# Altium schematic symbol library USBC_Power_Supply.SCHLIB: 68 symbols (part 1 of 2)
Pins are listed as number, name and electrical type; pins without a type are passive.

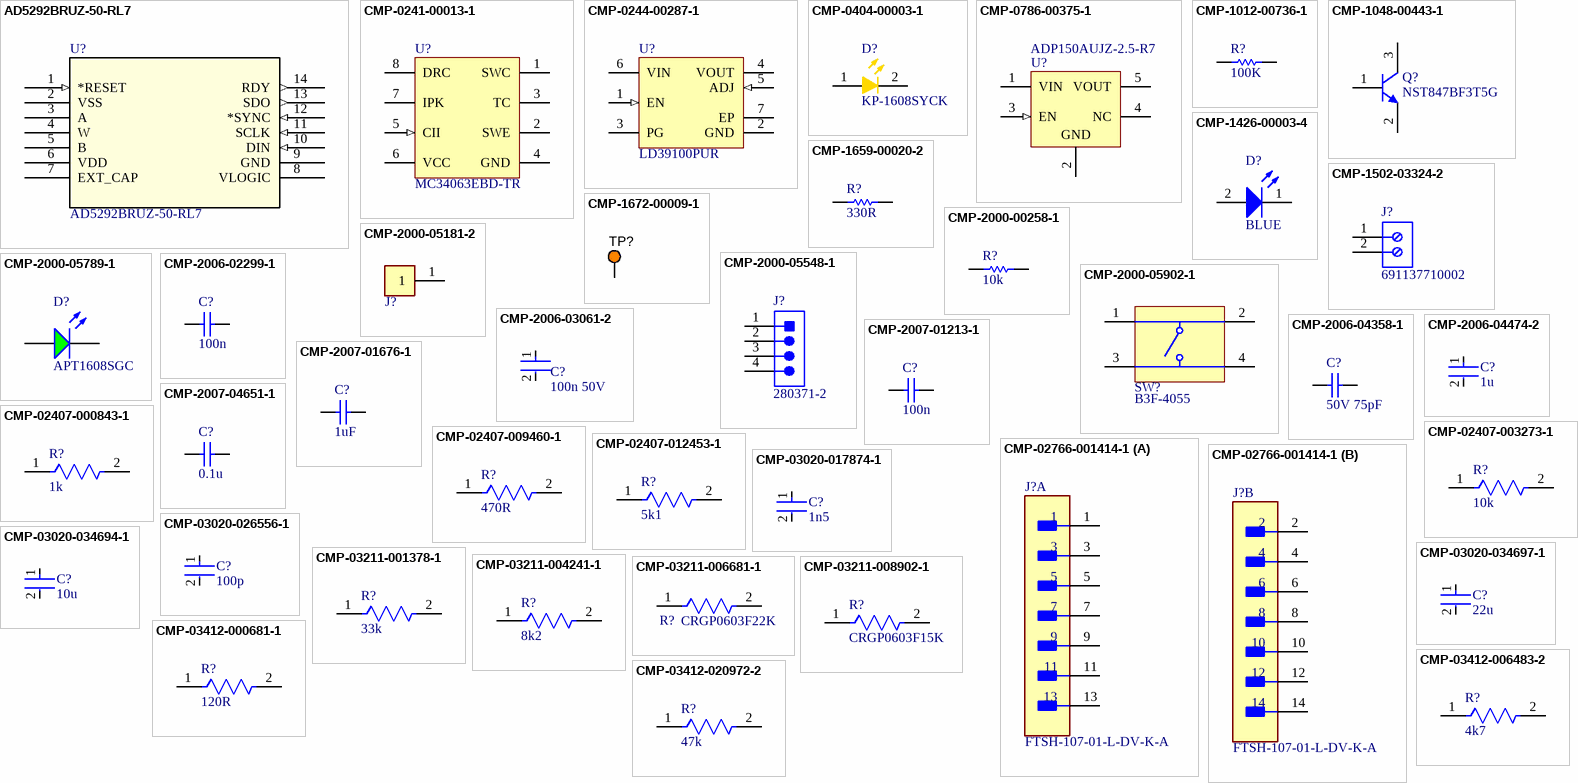
[diagram p0: symbols AD5292BRUZ-50-RL7 to CMP-03412-020972-2]

## AD5292BRUZ-50-RL7
designator U?
256-/1024-Position, Digital Potentiometers with Maximum Â±1% R-Tolerance Error and 20-TP Memory; Manufacturer_Name: Analog Devices Inc; Type: Data Acquisition; Copyright: Copyright (C) 2026 Ultra Librarian. All rights reserved.; Manufacturer_Part_Number: AD5292BRUZ-50-RL7; Datasheet: https://www.analog.com/media/en/technical-documentation/data-sheets/AD5291_5292.pdf; RefDes: RefDes
footprint RU-14_ADI
pins: 1 *RESET (in), 2 VSS (power), 3 A, 4 W, 5 B, 6 VDD (power), 7 EXT_CAP (power), 8 VLOGIC (power), 9 GND (power), 10 DIN (in), 11 SCLK (in), 12 *SYNC (in), 13 SDO (out), 14 RDY (out)

## CMP-0241-00013-1
designator U?, comment MC34063EBD-TR
DC/DC converter control circuit, 8-Pin SO, Tape and Reel; Manufacturer: STMicroelectronics; ComponentLink2URL: http://www.st.com/internet/com/TECHNICAL_RESOURCES/TECHNICAL_LITERATURE/DATASHEET/CD00001232.pdf; ComponentLink1URL: http://www.st.com; PackageVersion: Dec-2002; Code_IPC: SOIC127P600-8; PackageDescription: 8-Pin Small Outline Integrated Circuit 1.27 mm Pitch; DatasheetVersion: Nov-2007; PackageReference: SO8; ComponentLink2Description: Datasheet; ComponentLink3Description: Package Specification; ComponentLink1Description: Manufacturer URL; Code_JEDEC: MS-012-AA; ComponentLink3URL: http://www.st.com/internet/com/TECHNICAL_RESOURCES/TECHNICAL_LITERATURE/PACKAGE_INFORMATION/CD00004680.pdf; Manufacturer Part Number: MC34063EBD-TR
footprint SO8_M (SOIC, 8-Leads, Body 4.9x3.9mm, Pitch 1.27mm, IPC Low Density)
footprint SO8_L (SOIC, 8-Leads, Body 4.9x3.9mm, Pitch 1.27mm, IPC High Density)
footprint SO8_N (SOIC, 8-Leads, Body 4.9x3.9mm, Pitch 1.27mm, IPC Medium Density)
pins: 1 SWC (oc), 2 SWE (oe), 3 TC, 4 GND (power), 5 CII (in), 6 VCC (power), 7 IPK, 8 DRC (oc)

## CMP-0244-00287-1
designator U?, comment LD39100PUR
1 A Low Quiescent Current Low Noise Voltage Regulator, Adjustable from 0.8V, 6-Pin VFDFPN, Tape and Reel; Manufacturer: STMicroelectronics; ComponentLink1URL: http://www.st.com; ComponentLink1Description: Manufacturer URL; ComponentLink2Description: Datasheet; DatasheetVersion: 1/10/2011; PackageDescription: 6-Pin Plastic, Dual LLP, 3 x 3 mm Body, 0.95 mm Pitch, Exposed Pad; PackageReference: DFN6D; ComponentLink2URL: http://www.st.com/internet/com/TECHNICAL_RESOURCES/TECHNICAL_LITERATURE/DATASHEET/CD00233788.pdf; PackageVersion: 2008; Manufacturer Part Number: LD39100PUR
footprint DFN6D_M (SON, 6-Leads, Body 3x3mm, Pitch 0.95mm, Thermal Pad 2.4x1.65mm, IPC Low Density)
footprint DFN6D_L (SON, 6-Leads, Body 3x3mm, Pitch 0.95mm, Thermal Pad 2.4x1.65mm, IPC High Density)
footprint DFN6D_N (SON, 6-Leads, Body 3x3mm, Pitch 0.95mm, Thermal Pad 2.4x1.65mm, IPC Medium Density)
pins: 1 EN (in), 2 GND (power), 3 PG (oc), 4 VOUT (power), 5 ADJ (in), 6 VIN (power), 7 EP (power)

## CMP-0404-00003-1
designator D?, comment KP-1608SYCK
LED, SMT, 0603(1608), 1.1mm thickness, Yellow; Manufacturer: Kingbright; Reverse Voltage: 5 V; Packing Type: 2000 pcs / reel; Forward Current: 30 mA; Power Dissipation: 75 mW; ComponentLink2URL: http://www.kingbright.com/manager/upload/pdf/(1366274739)KP-1608SYCK(Ver.18B).pdf; PartNumber: KP-1608SYCK; ComponentLink1URL: http://www.kingbright.com/; ComponentLink2Description: Datasheet; PackageDescription: 2-Pin SMT LED, 1.6 x 0.8 mm Pitch; PackageReference: 0603LED_YELLOW; ComponentLink1Description: Manufacturer URL; Storage Temperature: -40 to +85 degC; Mounting Technology: Surface Mount; Manufacturer Part Number: KP-1608SYCK
footprint KING-0603LED_YELLOW_V (SMT LED, 2-Leads, Body 1.6x0.8mm (0603-Size))
pins: 1 A, 2 K

## CMP-0786-00375-1
designator U?, comment ADP150AUJZ-2.5-R7
Ultralow Noise, 150 mA CMOS Linear Regulator, 2.2 to 5.5 V Vin, 2.5 V Vout, Industrial, 5-pin SOT23 (UJ-5), Reel; Manufacturer: Analog Devices; Iout max: 150mA; Preset Vout Values (V): 2.5; Supply Current IGND @ Small Load: 10uA; Vin (max) (V): 5.5; Vin (min) (V): 2.2; ComponentLink1URL: http://www.analog.com/en/index.html; ComponentLink2Description: Datasheet; ComponentLink4URL: Product URL:http://www.analog.com/en/ADP150/productSearch.html; ComponentLink3Description: Package Specification; PackageDescription: 5-Pin Thin Small Outline Transistor Package, Body 2.9 x 1.6 mm, Pitch 0.95 mm; PackageReference: UJ-5; ComponentLink3URL: http:/www.analog.com/static/imported-files/packages/PKG_PDF/TSOT(UJ)/UJ_5.pdf; Packing: Reel; ComponentLink4Description: URL Link1; ComponentLink2URL: http://www.analog.com/static/imported-files/data_sheets/ADP150.pdf; Code_JEDEC: MO-193-AB; DatasheetVersion: Rev. A; PackageVersion: 100708-A, 10/2008; ComponentLink1Description: Manufacturer URL; Mounting Technology: Surface Mount; PartNumber: ADP150AUJZ-2.5-R7; Manufacturer Part Number: ADP150AUJZ-2.5-R7
footprint ADI-UJ-5_N (SOT23, 5-Leads, Body 2.9x1.6mm, Pitch 0.95mm, IPC Medium Density)
footprint ADI-UJ-5_M (SOT23, 5-Leads, Body 2.9x1.6mm, Pitch 0.95mm, IPC Low Density)
footprint ADI-UJ-5_L (SOT23, 5-Leads, Body 2.9x1.6mm, Pitch 0.95mm, IPC High Density)
pins: 1 VIN (power) "Regulator Input Supply. Bypass VIN to GND with a capacitor of at least 1 uF.", 2 GND (power) "Ground.", 3 EN (in) "Enable Input. Drive EN high to turn on the regulator; drive EN low to turn off the regulator. For automatic startup, connect EN to VIN.", 4 NC "No Connect. These pins are not internally bonded. They can be left floating or connected to ground.", 5 VOUT (power) "Regulated Output Voltage. Bypass VOUT to GND with a capacitor of at least 1 uF."

## CMP-1012-00736-1
designator R?, comment 100K
100K 0.1W 1% 0603 (1608 Metric)  SMD; Manufacturer: Vishay; Manufacturer Part Number: CRCW0603100KFKTC; Manufacturer Part Number: CRCW0603100KFKEB; Manufacturer Part Number: CRCW0603100KFKTA; Manufacturer Part Number: CRCW0603100KFKTB; Manufacturer: Yageo Group; Manufacturer Part Number: RC0603FR-07100KL; Manufacturer Part Number: CRCW0603100KFKEC; Manufacturer Part Number: CRCW0603-100KFKEA; Manufacturer: Bourns; Manufacturer Part Number: CR0603-FX-1003ELF; Manufacturer: Panasonic; Manufacturer Part Number: ERJ-3EKF1003V; Value: 100000.00 Ohm; Case-Metric: 1608; Case-EIA: 0603; Power: 0.1 W; Tolerance: 1 %; Technology: SMT
footprint RESC0603(1608)_N (Chip Resistor, Body 1.6x0.8mm, IPC Medium Density)
footprint RESC0603(1608)_M (Chip Resistor, Body 1.6x0.8mm, IPC Low Density)
footprint RESC0603(1608)_L (Chip Resistor, Body 1.6x0.8mm, IPC High Density)
pins: 1, 2
1 alternate drawing of the same symbol

## CMP-1048-00443-1
designator Q?, comment NST847BF3T5G
NPN General Purpose Transistor, 3-Pin SOT-1123, Pb-Free, Tape and Reel; Manufacturer: On Semiconductor; Manufacturer: onsemi; fT Min (MHz): 100; IC Continuous (A): 0.1; RoHS: TRUE; PartNumber: NST847BF3T5G; Packing: Tape and Reel; ComponentLink3Description: Package Specification; ComponentLink2URL: http://www.onsemi.com/pub_link/Collateral/NST847BF3-D.PDF; PackageReference: SOT-1123-3-524AA; PackageDescription: 3-Pin Small Outline Transistor, Body 0.8 x 0.6 mm, Pitch 0.375 mm; PackageVersion: Rev. C, 11/2011; ComponentLink1Description: Manufacturer URL; Mounting Technology: Surface Mount; ComponentLink2Description: Datasheet; ComponentLink1URL: http://www.onsemi.com/; DatasheetVersion: Rev. 1; Polarity: NPN; ComponentLink3URL: http://www.onsemi.cn/pub_link/Collateral/524AA.PDF; Manufacturer Part Number: NST847BF3T5G
footprint ONSC-SOT-1123-3-524AA_V (SOT223, 3-Leads, Body 0.8x0.6mm, Pitch 0.38mm)
pins: 1 B, 2 E, 3 C

## CMP-1426-00003-4
designator D?, comment BLUE
Led, Blue, 470 Nm, 3.2 V, 30 Ma, 145 Mcd Rohs Compliant: Yes; Manufacturer: Wurth Elektronik; Manufacturer Part Number: 150060BS75000; Peak Wavelength: 465nm; Dominant Wavelength: 470nm; Power Dissipation: 105mW; Viewing Angle: 140°; Test Current: 20mA; Max Junction Temperature (Tj): 95°C; Forward Current: 100mA; Reverse Voltage: 5V; Luminous Intensity: 145mcd; Lens Style: Clear, Rectangular; Forward Voltage: 3.2V; RoHS: Compliant; Min Operating Temperature: -40°C; REACH SVHC: Unknown; Max Operating Temperature: 85°C; Width: 800µm; Case Code (Imperial): 0603; Case Code (Metric): 1608; Max Reverse Voltage (DC): 5V; Height: 700µm; Case/Package: 0603; Mount: Surface Mount; Packaging: Tape and Reel; Color: Blue; Wavelength: 470nm; Length: 1.6mm
footprint WL-SMCW_0603_150060xx75000
pins: 1 K, 2 A

## CMP-1502-03324-2
designator J?, comment 691137710002
NexarPartId: 78871135; Manufacturer: Wurth Elektronik; Voltage Rating: 300V; Number of Contacts: 2; Current Rating: 16A; Lead Pitch: 5mm; Height: 11.6mm; Packaging: Box; RoHS: Non-Compliant; Contact Material: Nickel, Tin; Max Operating Temperature: 120°C; Number of Pins: 2; Min Operating Temperature: -30°C; Number of Rows: 1; Manufacturer Part Number: 691137710002
footprint 691137710002 (Series 1377 - 5.00 mm Horizontal Entry with Pressure Clamp WR-TBL, 2 pin)
pins: 1, 2

## CMP-1659-00020-2
designator R?, comment 330R
Chip Resistor, 330 Ohm, +/- 1%, 0.1 W, -55 to 155 degC, 0603 (1608 Metric), RoHS, Tape and Reel; Manufacturer: Yageo Group; Manufacturer Part Number: RC0603FR-07330RL; Tolerance: 10%; ESR: 800 mohm; Voltage Rating (DC): 16 V; Capacitance: 47 uF; Length: 7.3 mm; ComponentLink1URL: http://www.yageo.com/; Packaging: Tape and Reel; Pins: 2; ComponentLink1Description: Manufacturer URL; Case Code (Imperial): 2917; REACH SVHC: No SVHC; Width: 4.3 mm; ComponentLink2Description: Datasheet; Voltage Rating: 16 V; RoHSCompliant: True; Max Operating Temperature: 125degC; ComponentLink2URL: http://www.yageo.com/documents/recent/PYu-RC_Group_51_RoHS_L_04.pdf; Min Operating Temperature: -55degC; Case/Package: 2917; Radiation Hardening: No; DatasheetVersion: Rev. 4, 02/2016; Mount: Surface Mount; PackageReference: 0603; Package Quantity: 500; Case Code (Metric): 7343; PackageDescription: 2-Pin Surface Mount Device, Body 1.6 x 0.8 mm; Height: 3.1 mm
footprint RESC1608X55X25NL10T15 (Chip Resistor, 2-Leads, Body 1.70x0.90mm, IPC Medium Density)
footprint RESC1608X55X25LL10T15 (Chip Resistor, 2-Leads, Body 1.70x0.90mm, IPC High Density)
footprint RESC1608X55X25ML10T15 (Chip Resistor, 2-Leads, Body 1.70x0.90mm, IPC Low Density)
pins: 1, 2

## CMP-1672-00009-1
designator TP?, comment 5003  (value not drawn)
Test Point, Orange, 1-Pin THD, RoHS; Manufacturer: Keystone; Peak Reverse Current: 600 uA; Forward Current: 3 A; Max Surge Current: 80 A; Forward Voltage: 1.08 V; Max Operating Temperature: 150 degC; PackageReference: 5003; Pins: 2; ComponentLink2URL: http://keyelco.com/userAssets/file/M65p56.pdf; PackageDescription: 1-Pin Through Hole Device, Dia 2.54 mm; Weight: 0.01 lb; Diameter: 5.3 mm; Mount: Through Hole; Package Quantity: 500; Packaging: Bulk; Min Operating Temperature: -65 degC; ComponentLink1Description: Manufacturer URL; Height: 0.25 inch; ComponentLink1URL: http://www.keyelco.com/; ComponentLink2Description: Datasheet; Width: 0.25 inch; REACH SVHC: No SVHC; RoHSCompliant: true; Radiation Hardening: No; Length: 9.5 mm; DatasheetVersion: Jun-15; Manufacturer Part Number: 5003
footprint KSTN-5003 (Test Point, Through Hole, Dia 2.54mm)
pins: 1

## CMP-2000-00258-1
designator R?, comment 10k
Part Number: ERJ-3EKF1502V; Manufacturer: Panasonic; Manufacturer Part Number: ERJ-3EKF1502V
footprint RESC1608X55X30NL15T15 (Chip Resistor, 2-Leads, Body 1.60x0.80mm, IPC Medium Density)
footprint RESC1608X55X30ML15T15 (Chip Resistor, 2-Leads, Body 1.60x0.80mm, IPC Low Density)
footprint RESC1608X55X30LL15T15 (Chip Resistor, 2-Leads, Body 1.60x0.80mm, IPC High Density)
pins: 1, 2
1 alternate drawing of the same symbol

## CMP-2000-05181-2
designator J?, comment 5001  (value not drawn)
PC TEST POINT MINIATURE BLACK; Manufacturer: Keystone; Body Material: Bronze; Plating: Silver; Inside Diameter: 1.27mm; Hole Diameter: 1.6mm; Number of Ports: 1; Outside Diameter: 2.54mm; Insulation: Insulated; Insulation Material: Nylon; Mount: Through Hole; RoHS Compliant: Yes; Series: THM; Height: 0.3inch; Termination: Through Hole; Material: Nylon; Packaging: Bulk; Contact Material: Bronze; REACH SVHC: No SVHC; Contact Plating: Silver; Orientation: Straight; Lead Free: Lead Free; Package Quantity: 100; Length: 7.62mm; Flammability Rating: UL94 V-0; Number of Contacts: 1; Diameter: 2.54mm; Housing Color: Black; Color: Black; Manufacturer Part Number: 5001
footprint FP-5001-MFG
pins: 1

## CMP-2000-05548-1
designator J?, comment 280371-2
Male Header, Pitch 2.54 mm, 1 x 4 Position, Height 12.8 mm, Tail Length 3.5 mm, -55 to 105 degC, RoHS, Bulk; Manufacturer: TE Connectivity; Pitch: 0.100"(2.54mm); Connector Type: Header,Shrouded; Other Names: 280371-2-ND / A106401; Number of Positions Loaded: All; Dynamic Catalog: AMPMODUModIISeries; Number of Positions: 4; 3D Model: 280371-2.pdf; Termination: Solder; Package Description: Male Header, Pitch 2.54 mm, 1 x 4 Position, Height 12.8 mm, Tail Length 3.5 mm; Datasheet Version: Rev. M1, 08/2016; Contact Mating Length: 0.260"(6.60mm); Datasheet URL: http://www.te.com/commerce/DocumentDelivery/DDEController?Action=showdoc&DocId=Customer+Drawing%7F280370%7FM1%7Fpdf%7FEnglish%7FENG_CD_280370_M1.pdf%7F280371-2; Mounting Technology: ThroughHole; Standard Package: 1,000; Contact Finish Thickness: 15µin(0.38µm); Contact Finish: Gold; Contact Type: MalePin; Packaging: Bulk; Mounting Type: ThroughHole; Number of Rows: 1; Family: RectangularConnectors-Headers,MalePins; Manufacturer URL: http://www.te.com/; Color: Black; RoHS Information: 280371-2StatementofCompliance; Package Reference: 280371-2; Category: Connectors,Interconnects; Series: AMPMODUModII; Manufacturer Part Number: 280371-2
footprint TECO-280371-2_V (Male Header, 4-Leads, Body 12.7x5mm, Pitch 2.54)
pins: 1, 2, 3, 4

## CMP-2000-05789-1
designator D?, comment APT1608SGC
Super Bright Green LED, 62.5 mW, 25 mA, -40 to 85 degC, 2-Pin SMD, RoHS, Tape and Reel; Manufacturer: Kingbright; Online Catalog: 0603RectanglewithFlatTopChipLEDs; Wavelength - Dominant: 568nm; Wavelength - Peak: 565nm; Voltage - Forward (Vf) (Typ): 2.2V; Lens Type: Clear; Other Names: 754-1121-2; Millicandela Rating: 15mcd; Catalog Drawings: APT1608SeriesTop / APT1608SeriesSide; Lens Style/Size: RectanglewithFlatTop,1.2mmx0.8mm; Current - Test: 20mA; 3D Model: APT1608x.sldprt / APT1608x.pro / APT1608x.igs / APT1608x.stp; Viewing Angle: 120°; Package / Case: 0603(1608Metric); Category: Optoelectronics; Package Description: 2-Pin Surface Mount Device, Body 0.8 x 1.6 mm; Mounting Type: SurfaceMount; Color: Green; Height: 0.75mm; Datasheet Version: Rev. 16B, 02/2012; Family: LEDIndication-Discrete; Manufacturer URL: http://www.kingbright.com/; Package Reference: APT1608SGC; Datasheet URL: https://datasheet.ciiva.com/2113/apt1608sgc-2113808.pdf; Mounting Technology: SurfaceMount; Packaging: Tape&Reel(TR); Standard Package: 2,000; Size / Dimension: 1.60mmLx0.80mmW; Manufacturer Part Number: APT1608SGC
footprint KING-APT1608SGC_V (SMD, 2-Leads, Body 0.8x1.6mm)
pins: 1 A, 2 K

## CMP-2000-05902-1
designator SW?, comment B3F-4055
Tactile Switch, 1 to 50 mA, 100 mOhm Max, 5 to 24 VDC, -25 to 70 degC, 4-Pin THD, RoHS, Bulk; Manufacturer: OmronElectronics; Manufacturer: Omron; Contact Rating @ Voltage: 0.05@24VDCA; Pole Throw Configuration: SPST; Dielectric Strength: 500VAC; Maximum DC Voltage Rating: 24V; Electrical Life: 1000000Cycles; Product Weight: 0.85g; Switch Configuration: N.O.; Actuator Style: ProjectedPlunger; Actuator Color: Orange; Actuator Length: 3mm; Illumination Type: N/R; Body Orientation: Straight; Operating Force: 2.55N; Ground Terminal: No; Datasheet URL: https://datasheet.ciiva.com/20148/78-0136-20148640.pdf; Seal Location: N/A; Mechanical Life: N/A; Operating Temperature: -25to70C; Maximum AC Voltage Rating: N/A; Dimension: 12x12x7.3mm; Minimum Insulation Resistance: 100MOhm; Mounting: ThroughHole,PCPins; Housing Material: N/A; Packaging: Bag; Part No: B3F-4055; Maximum Contact Resistance: 100mOhm; Base Material: N/A; Manufacturer URL: http://www.omron.com/; RoHS: Yes; Contact Material: N/A; Package Description: 4-Pin Through Hole Device, Body 12 x 12 mm; Family: B3F; Mounting Technology: ThroughHole; Package Reference: B3F-4055; Contact Plating: Gold; Seal Description: N/A; Type: Miniature; Datasheet Version: 06/2009; Manufacturer Part Number: B3F-4055
footprint OMRON-B3F-4055_V (THD, 4-Leads, Body 12x12mm)
pins: 1, 2, 3, 4

## CMP-2006-02299-1
designator C?, comment 100n
Part Number: C0603C104K4RAC7013; Manufacturer: Kemet; Manufacturer: Yageo Group; Manufacturer Part Number: C0603C104K4RAC7013
footprint CAPC1608X90X35NL15T15 (Chip Capacitor, 2-Leads, Body 1.60x0.81mm, IPC Medium Density)
footprint CAPC1608X90X35LL15T15 (Chip Capacitor, 2-Leads, Body 1.60x0.81mm, IPC High Density)
footprint CAPC1608X90X35ML15T15 (Chip Capacitor, 2-Leads, Body 1.60x0.81mm, IPC Low Density)
pins: 1, 2
1 alternate drawing of the same symbol

## CMP-2006-03061-2
designator C?, comment 100n 50V
CAP CER 0.1UF 50V X7R 0603; Manufacturer: KEMET; Manufacturer Part Number: C0603C104K5RACTU; Manufacturer: Yageo Group; Tolerance: 0.1; Temperature Coefficient: 30ppm/°C; Material: Ceramic; Automotive Grade: Grade 1; Value: 0.10 μF; Temperature: -55°C to +125°C; RoHS: TRUE; Temperature Range High: +125°C; Lead Free: Yes; Octopart: https://octopart.com/c0603c104k5ractu-kemet-139244; Digikey Description: CAP CER 0.1UF 50V X7R 0603; Category: Cap; Package: C0603C-CF; ComponentLink2Description: Datasheet; Temperature Range Low: -55°C; Device Class L1: Passive Components; Voltage Rating: 50 V; Automotive: Yes; Device Class L3: Ceramic Capacitors; ComponentLink2URL: https://api.kemet.com/component-edge/download/datasheet/C0603C100J5GACAUTO.pdf; Capacitance: 0.10 μF; Device Class L2: Capacitors; Temperature Characteristic: X7R; Height: 0.87mm
footprint FP-C0603C-CF-MFG
footprint FP-C0603C-CF-IPC_C
footprint FP-C0603C-CF-IPC_B
footprint FP-C0603C-CF-IPC_A
pins: 1, 2

## CMP-2006-04358-1
designator C?, comment 50V 75pF
Part Number: 06035A750JAT2A; Manufacturer: AVX Interconnect / Elco; Manufacturer: KYOCERA AVX; Manufacturer Part Number: 06035A750JAT2A
footprint CAPC1608X90X35ML15T15 (Chip Capacitor, 2-Leads, Body 1.60x0.81mm, IPC Low Density)
footprint CAPC1608X90X35LL15T15 (Chip Capacitor, 2-Leads, Body 1.60x0.81mm, IPC High Density)
footprint CAPC1608X90X35NL15T15 (Chip Capacitor, 2-Leads, Body 1.60x0.81mm, IPC Medium Density)
pins: 1, 2
1 alternate drawing of the same symbol

## CMP-2006-04474-2
designator C?, comment 1u
General Purpose Ceramic Capacitor, 0603, 1uF, 10%, X5R, 15%, 6.3V; Manufacturer: KYOCERA AVX; Manufacturer Part Number: 06036D105KAT2A; Insulation Resistance: 100GR; Dissipation Factor: 5%; Package Quantity: 1; Mount: Surface Mount; Series: -; Number of Pins: 2; Length: 1.6mm; RoHS Compliant: Yes; Capacitance: 1uF; Depth: 0.81mm; Case Code (Imperial): 0603; Lead Free: Lead Free; Max Operating Temperature: 85°C; Case Code (Metric): 1608; Min Operating Temperature: -55°C; Contact Plating: Tin; Voltage: 6.3V; Tolerance: 10%; Width: 0.032inch; Voltage Rating (DC): 6.3V; Voltage Rating: 6.3V; Termination: SMD/SMT; Radiation Hardening: No; Case/Package: 0603; Thickness: 0.035inch; Height: 0.9mm; REACH SVHC: No SVHC; Packaging: Tape and Reel; Construction: Flat; Dielectric: X5R
footprint FP-0603-L_1_6_0_15-W_0_81-IPC_A
footprint FP-0603-L_1_6_0_15-W_0_81-IPC_C
footprint FP-0603-L_1_6_0_15-W_0_81-IPC_B
footprint FP-0603-L_1_6_0_15-W_0_81-MFG
pins: 1, 2

## CMP-2007-01213-1
designator C?, comment 100n
Part Number: C0805C106M9RACTU; Manufacturer: Kemet; Manufacturer: Yageo Group; Manufacturer Part Number: C0805C106M9RACTU
footprint CAPC2013X145X50NL20T25 (Chip Capacitor, 2-Leads, Body 2.00x1.25mm, IPC Medium Density)
footprint CAPC2013X145X50ML20T25 (Chip Capacitor, 2-Leads, Body 2.00x1.25mm, IPC Low Density)
footprint CAPC2013X145X50LL20T25 (Chip Capacitor, 2-Leads, Body 2.00x1.25mm, IPC High Density)
pins: 1, 2
1 alternate drawing of the same symbol

## CMP-2007-01676-1
designator C?, comment 1uF
Part Number: VJ0805Y105KXQRW1BC; Manufacturer: Vitramon; Manufacturer: Vishay; Manufacturer Part Number: VJ0805Y105KXQRW1BC
footprint CAPC2013X145X50NL20T20 (Chip Capacitor, 2-Leads, Body 2.00x1.25mm, IPC Medium Density)
footprint CAPC2013X145X50LL20T20 (Chip Capacitor, 2-Leads, Body 2.00x1.25mm, IPC High Density)
footprint CAPC2013X145X50ML20T20 (Chip Capacitor, 2-Leads, Body 2.00x1.25mm, IPC Low Density)
pins: 1, 2
1 alternate drawing of the same symbol

## CMP-2007-04651-1
designator C?, comment 0.1u
Part Number: 0805DD104KAT2A; Manufacturer: AVX Interconnect / Elco; Manufacturer: KYOCERA AVX; Manufacturer Part Number: 0805DD104KAT2A
footprint CAPC2013X140X50ML20T25 (Chip Capacitor, 2-Leads, Body 2.00x1.25mm, IPC Low Density)
footprint CAPC2013X140X50LL20T25 (Chip Capacitor, 2-Leads, Body 2.00x1.25mm, IPC High Density)
footprint CAPC2013X140X50NL20T25 (Chip Capacitor, 2-Leads, Body 2.00x1.25mm, IPC Medium Density)
pins: 1, 2
1 alternate drawing of the same symbol

## CMP-02407-000843-1
designator R?, comment 1k
RES SMD 100 OHM 1% 1/8W 0603; Manufacturer: Vishay; Manufacturer Part Number: MCT0603MD1001BPW00; Resistance: 1kR; Max Power Dissipation: 125mW; Tolerance: 0.1%; Temperature Coefficient: 25ppm/°C; Height: 0.022inch; Packaging: Tape and Reel; Composition: Thin Film; Number of Terminations: 2; Length: 0.061inch; Width: 0.033inch; Case/Package: 0603
footprint FP-MCT0603-IPC_C
footprint FP-MCT0603-IPC_A
footprint FP-MCT0603-MFG
footprint FP-MCT0603-IPC_B
pins: 1, 2

## CMP-02407-003273-1
designator R?, comment 10k
RES Thick Film, 10kΩ, 1%, 0.1W, 100ppm/°C, 0603; Manufacturer: Vishay; Manufacturer Part Number: CRCW060310K0FKED; Max Power Dissipation: 100mW; Resistance: 10kR; Tolerance: 1%; Packaging: Tape and Reel; Lead Free: Lead Free; Max Operating Temperature: 155°C; Min Operating Temperature: -55°C; Package Quantity: 10000; Length: 0.061inch; Height: 0.02inch; Width: 0.033inch; Composition: Thick Film; Number of Terminations: 2; Case/Package: 0603; Features: Automotive AEC-Q200; Temperature Coefficient: 100ppm/°C
footprint FP-CRCW0603-e3-IPC_A
footprint FP-CRCW0603-e3-IPC_C
footprint FP-CRCW0603-e3-IPC_B
footprint FP-CRCW0603-e3-MFG
pins: 1, 2

## CMP-02407-009460-1
designator R?, comment 470R
RES Thick Film, 470Ω, 5%, 0.33W, 200ppm/°C, 0603; Manufacturer: Vishay; Manufacturer Part Number: CRCW0603470RJNEAHP; Max Power Dissipation: 250mW; Voltage Rating: 75V; Case/Package: 0603; Lead Free: Lead Free; Min Operating Temperature: -55°C; Features: Automotive AEC-Q200; Temperature Coefficient: 200ppm/°C; Max Operating Temperature: 155°C; Number of Terminations: 2; Width: 0.8mm; Weight: 7.1E-05oz; Case Code (Imperial): 0603; Radiation Hardening: No; Tolerance: 5%; Termination: SMD/SMT; Contact Plating: Tin; Case Code (Metric): 1608; Packaging: Tape and Reel; Package Quantity: 5000; Resistance: 470R; Length: 0.063inch; Composition: Thick Film; Power Rating: 250mW; Height: 0.022inch
footprint FP-CRCW0603-HPe3-MFG
footprint FP-CRCW0603-HPe3-IPC_A
footprint FP-CRCW0603-HPe3-IPC_B
footprint FP-CRCW0603-HPe3-IPC_C
pins: 1, 2

## CMP-02407-012453-1
designator R?, comment 5k1
RES 5.1K OHM 5% 1/10W 0603; Manufacturer: Vishay; Manufacturer Part Number: CRCW06035K10JNEAC; Power Rating: 100mW; Resistance: 5.1kR; Temperature Coefficient: 200ppm/°C; Contact Plating: Tin; Resistor Type: Thick Film; RoHS Compliant: Yes; Mount: Surface Mount; Tolerance: 5%; Lead Free: Lead Free; Min Operating Temperature: -55°C; Max Operating Temperature: 155°C; Termination: Wraparound; Length: 1.55mm; Case/Package: SMD/SMT
footprint FP-CRCW0603-C-MFG
footprint FP-CRCW0603-C-IPC_C
footprint FP-CRCW0603-C-IPC_B
footprint FP-CRCW0603-C-IPC_A
pins: 1, 2

## CMP-02766-001414-1
designator J?, comment FTSH-107-01-L-DV-K-A
CONN HEADER SMD 14POS 1.27MM; Manufacturer: Samtec; Number of Contacts: 14; Gender: Male; Contact Plating: Gold; Termination: Solder; Lead Free: Lead Free; Contact Material: Bronze; Pitch: 1.27mm; Number of Rows: 2; RoHS Compliant: Yes; Manufacturer Part Number: FTSH-107-01-L-DV-K-A
footprint FP-FTSH-107-01-L-DV-K-A-MFG
part A pins: 1, 3, 5, 7, 9, 11, 13
part B pins: 2, 4, 6, 8, 10, 12, 14

## CMP-03020-017874-1
designator C?, comment 1n5
C0603 1,500 pF X7R 30ppm/°C 5.00% 50 V; Manufacturer Part Number: C0603C152J5RACAUTO; Manufacturer: KEMET; Manufacturer: Yageo Group; Tolerance: 0.05; Material: Ceramic; Voltage Rating: 50 V; Automotive Grade: Grade 1; Temperature Coefficient: 30ppm/°C; Lead Free: Yes; Automotive: Yes; Capacitance: 1,500 pF; Height: 0.87mm; Octopart: https://octopart.com/c0603c152j5racauto-kemet-48652793; Package: C0603C-CF; Device Class L1: Passive Components; RoHS: TRUE; Temperature Range Low: -55°C; ComponentLink2URL: https://api.kemet.com/component-edge/download/datasheet/C0603C100J5GACAUTO.pdf; ComponentLink2Description: Datasheet; Device Class L2: Capacitors; Device Class L3: Ceramic Capacitors; Category: Cap; Temperature: -55°C to +125°C; Temperature Range High: +125°C; Temperature Characteristic: X7R; Value: 1,500 pF
footprint FP-C0603C-CF-MFG
footprint FP-C0603C-CF-IPC_C
footprint FP-C0603C-CF-IPC_B
footprint FP-C0603C-CF-IPC_A
pins: 1, 2

## CMP-03020-026556-1
designator C?, comment 100p
CAP CER 100PF 10V X7R 0603; Manufacturer: KEMET; Manufacturer Part Number: C0603C101K8RAC7867; Manufacturer: Yageo Group; Material: Ceramic; Temperature Coefficient: 30ppm/°C; Automotive Grade: Grade 1; Tolerance: 0.1; RoHS: TRUE; Lead Free: Yes; Octopart: https://octopart.com/c0603c101k8rac7867-kemet-83501928; Device Class L1: Passive Components; ComponentLink2URL: https://api.kemet.com/component-edge/download/datasheet/C0603C100J5GACAUTO.pdf; Value: 100 pF; Digikey Description: CAP CER 100PF 10V X7R 0603; Package: C0603C-CF; Voltage Rating: 10 V; Height: 0.87mm; Temperature: -55°C to +125°C; Temperature Range High: +125°C; Device Class L3: Ceramic Capacitors; Capacitance: 100 pF; ComponentLink2Description: Datasheet; Temperature Range Low: -55°C; Category: Cap; Temperature Characteristic: X7R; Device Class L2: Capacitors; Automotive: Yes
footprint FP-C0603C-CF-MFG
footprint FP-C0603C-CF-IPC_C
footprint FP-C0603C-CF-IPC_B
footprint FP-C0603C-CF-IPC_A
pins: 1, 2

## CMP-03020-034694-1
designator C?, comment 10u
CAP CER 10UF 10V X7R 0805; Manufacturer: Yageo Group; Manufacturer Part Number: C0805X106K8RACAUTO; Tolerance: 10%; Case/Package: 0805; Min Operating Temperature: -55°C; Max Operating Temperature: 125°C; RoHS Compliant: Yes; Ratings: AEC-Q200; Mount: Surface Mount; Features: Soft Termination; Capacitance: 10uF; Packaging: Cut Tape; Case Code (Metric): 2012; Voltage Rating: 10V; Case Code (Imperial): 0805
footprint FP-C0805X106K8RACAUTO-MFG
footprint FP-C0805X106K8RACAUTO-IPC_C
footprint FP-C0805X106K8RACAUTO-IPC_B
footprint FP-C0805X106K8RACAUTO-IPC_A
pins: 1, 2

## CMP-03020-034697-1
designator C?, comment 22u
CAP CER 22UF 10V X5R 0805; Manufacturer: Yageo Group; Manufacturer Part Number: C0805C226M8PACTU; Tolerance: 20%; Dissipation Factor: 10%; Dielectric Material: Ceramic; Termination: Solder; Case Code (Imperial): 0805; Packaging: Tape and Reel; Height: 1.25mm; Voltage: 10V; Case Code (Metric): 2012; Case/Package: 0805; Width: 0.049inch; Capacitance: 22uF; Length: 0.079inch; Depth: 1.25mm; RoHS Compliant: Yes; Voltage Rating (DC): 10V; Lead Free: Lead Free; Dielectric: X5R; Thickness: 0.055inch; Mount: Surface Mount; Voltage Rating: 10V; Max Operating Temperature: 85°C; Min Operating Temperature: -55°C
footprint FP-C0805C226M8PACTU-MFG
footprint FP-C0805C226M8PACTU-IPC_C
footprint FP-C0805C226M8PACTU-IPC_B
footprint FP-C0805C226M8PACTU-IPC_A
pins: 1, 2

## CMP-03211-001378-1
designator R?, comment 33k
CRGCQ0603 33KΩ 5% ±100ppm/°C 75V; Manufacturer Part Number: CRGCQ0603J33K; Manufacturer: TE Connectivity; Tolerance: 0.05; Power Rating: 0.1W; Temperature Range Low: -55°C; ComponentLink2URL: https://www.te.com/commerce/DocumentDelivery/DDEController?Action=showdoc&DocId=Data+Sheet%7F1773204-3%7F1%7Fpdf%7FEnglish%7FENG_DS_1773204-3_1.pdf%7F4-2176339-1037; Device Class L3: Chip SMD Resistors; Device Class L1: Passive Components; Temperature Coefficient: ±100ppm/°C; Temperature Range High: +155°C; Series: CRGCQ; Category: Res; Ambient Temperature Range High: +70°C; Temperature: -55°C to +155°C; RoHS: TRUE; Resistance: 33KΩ; Ipc Land Pattern Name: RESC16080X45; Octopart: https://octopart.com/crgcq0603j33k-te+connectivity-91018119; Lead Free: Yes; Height: 0.55mm; Device Class L2: Resistors; Composition: Thick Film; ComponentLink2Description: Datasheet; Value: 33KΩ; Voltage Rating: 75V; Package: CRGCQ0603
footprint FP-CRGCQ0603-IPC_C
footprint FP-CRGCQ0603-IPC_B
footprint FP-CRGCQ0603-IPC_A
pins: 1, 2

## CMP-03211-004241-1
designator R?, comment 8k2
CRGP0603 8.2KΩ 0.25W ±100ppm/°C 1% 50V; Manufacturer Part Number: CRGP0603F8K2; Manufacturer: TE; Manufacturer: TE Connectivity; Tolerance: 0.01; Value: 8.2KΩ; Device Class L1: Passive Components; Composition: Thick Film; Temperature Range Low: -55°C; Package: CRGP0603; Resistance: 8.2KΩ; ComponentLink2URL: https://www.te.com/commerce/DocumentDelivery/DDEController?Action=srchrtrv&DocNm=9-1773463-9&DocType=DS&DocLang=English; Series: CRGP; Ipc Land Pattern Name: RESC16080X45; Temperature Coefficient: ±100ppm/°C; Temperature: -55°C to +155°C; Octopart: https://octopart.com/crgp0603f8k2-te+connectivity-91018779; Device Class L2: Resistors; Category: Res; Power Rating: 0.25W; Ambient Temperature Range High: +70°C; Temperature Range High: +155°C; Automotive: No; ComponentLink2Description: Datasheet; Height: 0.55mm; RoHS: TRUE; Voltage Rating: 50V; Lead Free: Yes; Device Class L3: Chip SMD Resistors
footprint FP-CRGP0603-IPC_C
footprint FP-CRGP0603-IPC_B
footprint FP-CRGP0603-IPC_A
pins: 1, 2

## CMP-03211-006681-1
designator R?, comment CRGP0603F22K
CRGP 0603 22K 1%; Manufacturer: TE; Manufacturer: TE Connectivity; Resistance: 22KΩ; Power Rating: 0.25W; Temperature Coefficient: ±100ppm/°C; Tolerance: 0.01; Voltage Rating: 50V; Value: 22KΩ; Lead Free: Yes; Device Class L3: Chip SMD Resistors; Ipc Land Pattern Name: RESC16080X45; Composition: Thick Film; Octopart: https://octopart.com/crgp0603f22k-te+connectivity-91018742; RoHS: TRUE; ComponentLink2Description: Datasheet; Digikey Description: CRGP 0603 22K 1%; Category: Res; Temperature: -55°C to +155°C; Manufacturer Part Number: CRGP0603F22K; Temperature Range High: +155°C; Series: CRGP; ComponentLink2URL: https://www.te.com/commerce/DocumentDelivery/DDEController?Action=srchrtrv&DocNm=9-1773463-9&DocType=DS&DocLang=English; Device Class L2: Resistors; Height: 0.55mm; Ambient Temperature Range High: +70°C; Device Class L1: Passive Components; Automotive: No; Temperature Range Low: -55°C; Package: CRGP0603
footprint FP-CRGP0603-IPC_C
footprint FP-CRGP0603-IPC_B
footprint FP-CRGP0603-IPC_A
pins: 1, 2

## CMP-03211-008902-1
designator R?, comment CRGP0603F15K
CRGP0603 15KΩ 0.25W ±100ppm/°C 1% 50V; Manufacturer: TE; Manufacturer: TE Connectivity; Tolerance: 0.01; Device Class L2: Resistors; ComponentLink2URL: https://www.te.com/commerce/DocumentDelivery/DDEController?Action=srchrtrv&DocNm=9-1773463-9&DocType=DS&DocLang=English; Composition: Thick Film; Device Class L3: Chip SMD Resistors; Manufacturer Part Number: CRGP0603F15K; Power Rating: 0.25W; Ambient Temperature Range High: +70°C; Package: CRGP0603; Device Class L1: Passive Components; Value: 15KΩ; Temperature Range Low: -55°C; Resistance: 15KΩ; Temperature Range High: +155°C; Voltage Rating: 50V; Category: Res; Octopart: https://octopart.com/crgp0603f15k-te+connectivity-91018729; Ipc Land Pattern Name: RESC16080X45; Series: CRGP; ComponentLink2Description: Datasheet; Height: 0.55mm; RoHS: TRUE; Temperature Coefficient: ±100ppm/°C; Automotive: No; Temperature: -55°C to +155°C; Lead Free: Yes
footprint FP-CRGP0603-IPC_C
footprint FP-CRGP0603-IPC_B
footprint FP-CRGP0603-IPC_A
pins: 1, 2

## CMP-03412-000681-1
designator R?, comment 120R
RES SMD 0603 1/4W 1% 120 OHM; Manufacturer: Yageo; Manufacturer Part Number: SR0603FR-7T120RL; Manufacturer: Yageo Group; Automotive Grade: Grade 0; Voltage Rating: 75V; Value: 120Ω; Power Rating: 0.25W; Tolerance: 0.01; Octopart: https://octopart.com/sr0603fr-7t120rl-yageo-92673849; Lead Free: Yes; Ipc Land Pattern Name: RESC16080X45; ComponentLink2URL: http://www.yageo.com/documents/recent/PYu-SR_D_F%20tol_RoHS_L_3.pdf; RoHS: TRUE; Category: Res; Digikey Description: RES SMD 0603 1/4W 1% 120 OHM; Footprint Url: http://www.yageo.com/exep/pages/download/literatures/PYu-R_Mount_10.pdf; ComponentLink2Description: Datasheet; Temperature Range High: +155°C; Device Class L3: Chip SMD Resistors; Mouser Description: Surge Chip Resistor Automotive Grade Thick Film 0603 120Ohm 1% Paper T/R; Resistance: 120Ω; Height: 0.55mm; Temperature Range Low: -55°C; Automotive: Yes; Temperature: -55°C to +155°C; Device Class L1: Passive Components; Package: SR0603; Series: SR; Device Class L2: Resistors; Composition: Thick Film
footprint FP-SR0603-MFG
footprint FP-SR0603-IPC_C
footprint FP-SR0603-IPC_B
footprint FP-SR0603-IPC_A
pins: 1, 2

## CMP-03412-006483-2
designator R?, comment 4k7
RES 4.7KΩ 1.00% 0.1W 0603; Manufacturer: Yageo Group; Manufacturer Part Number: AC0603FR-104K7L; Tolerance: 1%; Resistance: 4.7kR; Case/Package: 0603; RoHS Compliant: Yes
footprint FP-AC0603-IPC_A
footprint FP-AC0603-IPC_B
footprint FP-AC0603-MFG
footprint FP-AC0603-IPC_C
pins: 1, 2

## CMP-03412-020972-2
designator R?, comment 47k
Thin Film Chip Resistors Automotive Grade 47kΩ 1% 50ppm/°C 0603; Manufacturer: Yageo Group; Manufacturer Part Number: AT0603FRE0747KL; Max Power Dissipation: 100mW; Resistance: 47kR; Series: AT; Case/Package: 0603; Temperature Coefficient: 50ppm/°C; Length: 0.063inch; Number of Terminations: 2; Width: 0.032inch; Tolerance: 1%; Min Operating Temperature: -55°C; Features: Moisture Resistant; Resistor Type: Thin Film; RoHS Compliant: Yes; Case Code (Imperial): 0603; Packaging: Cut Tape; Height: 0.022inch; Ratings: AEC-Q200; Case Code (Metric): 1608; Max Operating Temperature: 155°C
footprint FP-AT0603-MFG
footprint FP-AT0603-IPC_B
footprint FP-AT0603-IPC_C
footprint FP-AT0603-IPC_A
pins: 1, 2

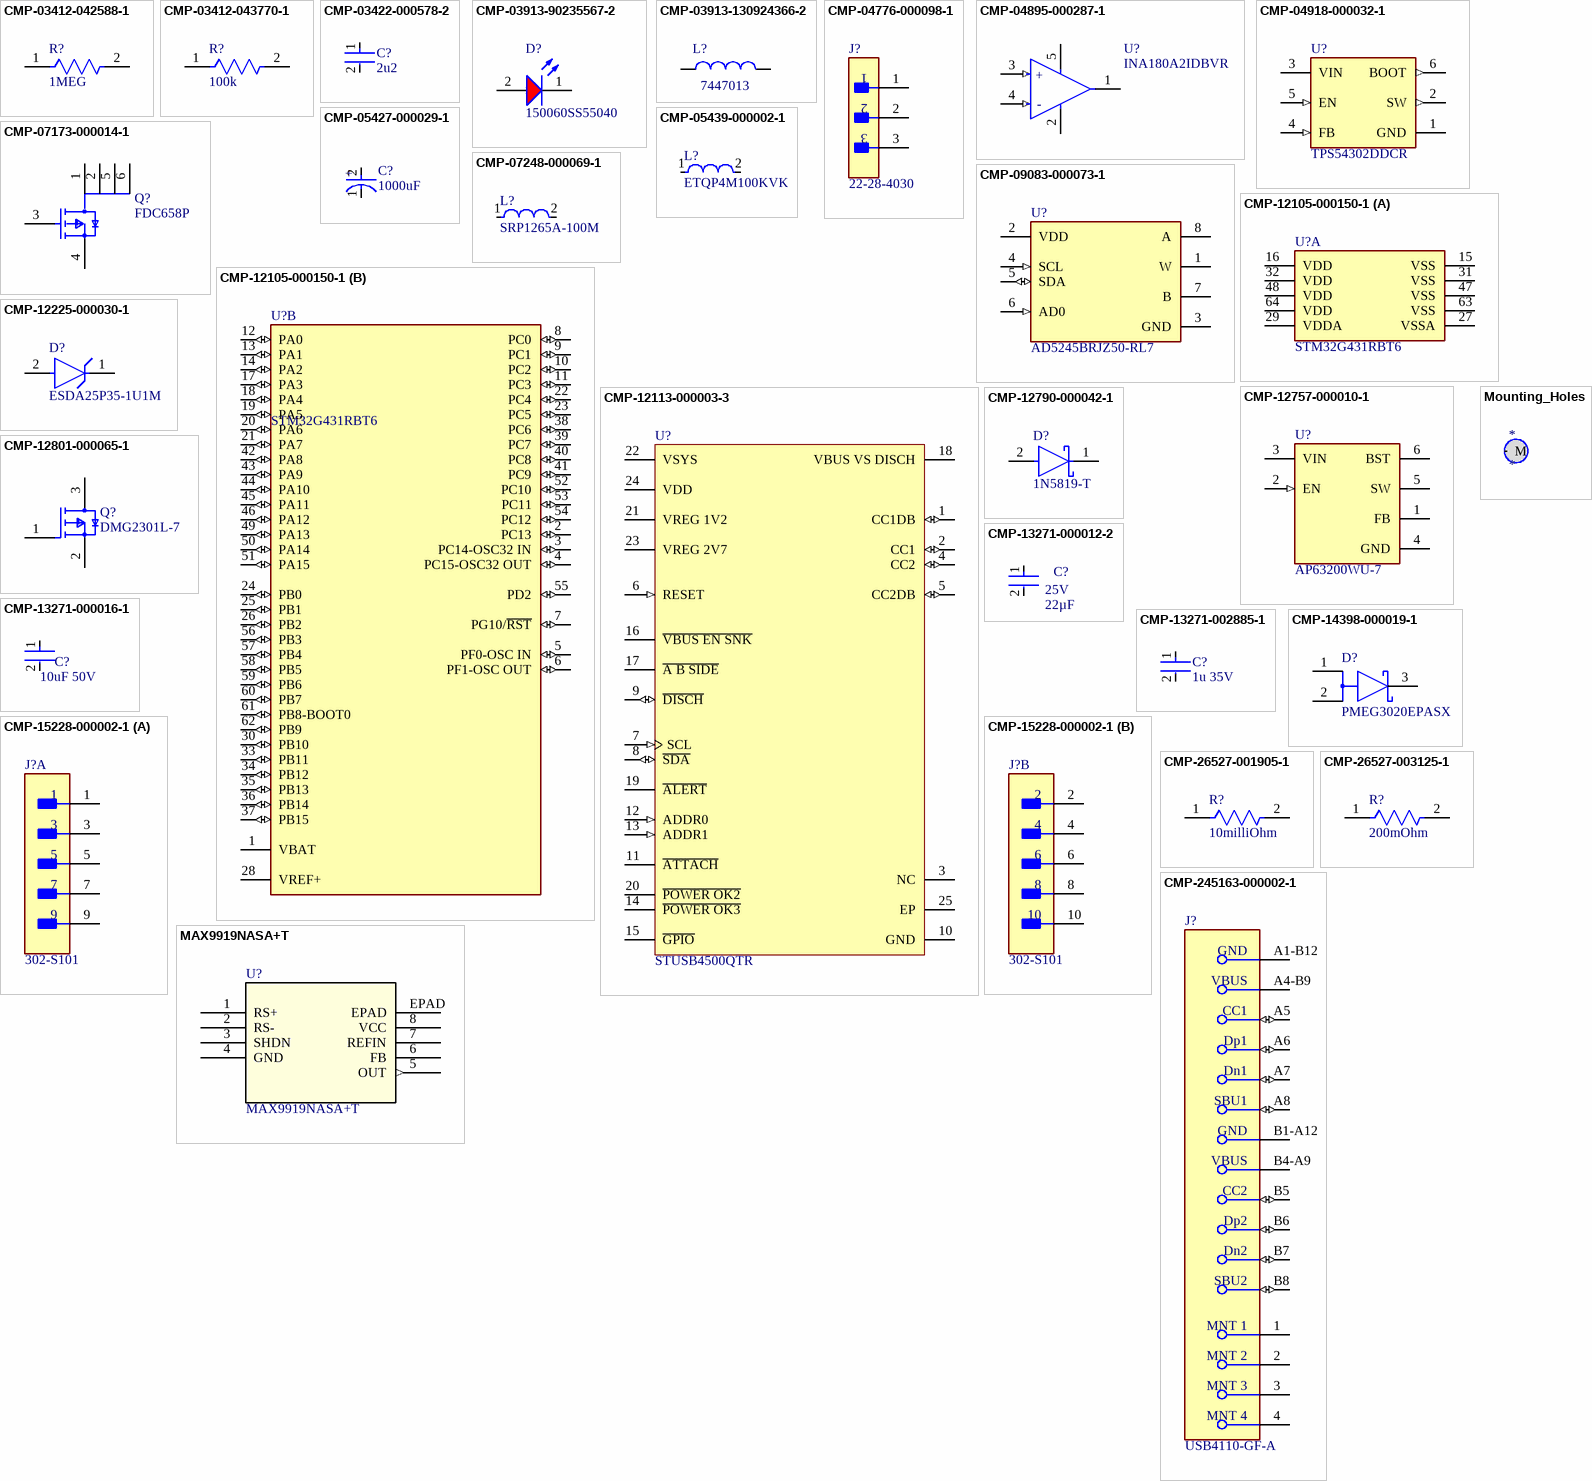
[diagram p1: symbols CMP-03412-042588-1 to Mounting_Holes]

## CMP-03412-042588-1
designator R?, comment 1MEG
RES 1MΩ 1.00% 0.1W 0603; Manufacturer: Yageo Group; Manufacturer Part Number: AC0603FR-101ML; Tolerance: 1%; Resistance: 1MR; RoHS Compliant: Yes; Case/Package: 0603
footprint FP-AC0603-IPC_A
footprint FP-AC0603-IPC_C
footprint FP-AC0603-MFG
footprint FP-AC0603-IPC_B
pins: 1, 2

## CMP-03412-043770-1
designator R?, comment 100k
RES 100kΩ 1.00% 0.2W 0603; Manufacturer: Yageo Group; Manufacturer Part Number: AC0603FR-7W100KL
footprint FP-AC0603-IPC_A
footprint FP-AC0603-IPC_B
footprint FP-AC0603-MFG
footprint FP-AC0603-IPC_C
pins: 1, 2

## CMP-03422-000578-2
designator C?, comment 2u2
CAP CER 2.2UF 50V X5R 0603; Manufacturer: Yageo Group; Manufacturer Part Number: CC0603KRX5R9BB225; Tolerance: 10%; Packaging: Cut Tape; Capacitance: 2.2uF; Min Operating Temperature: -55°C; RoHS Compliant: Yes; Max Operating Temperature: 85°C; Case Code (Metric): 1608; Voltage Rating: 50V; Case/Package: 0603; Case Code (Imperial): 0603; Mount: Surface Mount
footprint FP-CC0603-DC-MFG
footprint FP-CC0603-DC-IPC_C
footprint FP-CC0603-DC-IPC_B
footprint FP-CC0603-DC-IPC_A
pins: 1, 2

## CMP-03913-90235567-2
designator D?, comment 150060SS55040
150060SS55040 WL-SMCD SMT Mono-color Chip LED Diffused; NexarPartId: 90235567; Manufacturer: Wurth Elektronik; Max Reverse Voltage (DC): 5V; Luminous Intensity: 70mcd; Forward Current: 40mA; Wavelength: 630nm; Peak Wavelength: 645nm; Viewing Angle: 140°; Forward Voltage: 2V; Packaging: Tape and Reel; Length: 1.6mm; Height: 400µm; Min Operating Temperature: -40°C; Dominant Wavelength: 630nm; Width: 800µm; Max Operating Temperature: 85°C; RoHS: Compliant; Manufacturer Part Number: 150060SS55040
footprint WL-SMCD_0603 (WL-SMCD SMT Mono-color Chip LED Diffused)
pins: 1 K, 2 A

## CMP-03913-130924366-2
designator L?, comment 7447013
Toroidal Inductors, 90Uh, 0.04 Ohm, 4.6A Rohs Compliant: Yes; Manufacturer: Wurth Elektronik; Inductance: 90µH; Pin Length: 15mm; RoHS: Compliant; Max Operating Temperature: 105°C; Width: 10.5mm; Length: 18.5mm; Ambient Temperature Range High: 65°C; Min Operating Temperature: -40°C; Ambient Temperature Range Low: -40°C; Current Rating: 4.6A; Manufacturer Part Number: 7447013
footprint 7447013 (Toroidal Inductors, 90Uh, 0.04 Ohm, 4.6A Rohs Compliant: Yes)
pins: 1, 2

## CMP-04776-000098-1
designator J?, comment 22-28-4030
CONN HEADER VERT 3POS 2.54MM; Manufacturer: Molex; Conn Orientation: Vertical; Conn Gender: Male; Current Rating: 4A; Voltage Rating: 500V; Number Of Contacts: 3; Category: Conn; Number Of Rows: 1; Manufacturer Part Number: 22-28-4030; RoHS: TRUE; Package: 22-28-4030; Footprint Url: https://www.molex.com/pdm_docs/sd/022284030_sd.pdf; ComponentLink2Description: Datasheet; Device Class L2: Headers and Wire Housings; Automotive: No; Temperature Range Low: -40°C; Digikey Description: CONN HEADER VERT 3POS 2.54MM; Mouser Description: Headers & Wire Housings 3P VERT HEADER Sn; Contact Material: Gold,Nickel; Pitch: 2.54mm; Device Class L1: Connectors; Lead Free: Yes; Device Class L3: unset; Temperature Range High: +80°C; Octopart: https://octopart.com/0022284030-molex-10476094; ComponentLink2URL: https://www.molex.com/webdocs/datasheets/pdf/en-us/0022284030_PCB_HEADERS.pdf; Height: 8.88mm; Temperature: -40°C to +80°C
footprint FP-22-28-4030-MFG
pins: 1, 2, 3

## CMP-04895-000287-1
designator U?, comment INA180A2IDBVR
IC CURR SENSE 1 CIRCUIT SOT23-5; Manufacturer: Texas Instruments; Operating Supply Current: 260uA; -3db Bandwidth: 350kHz; Slew Rate: 2V/µs; Number of Circuits: 1; Input Offset Voltage (Vos): 100uV; Input Bias Current: 100nA; Mount: Surface Mount; Max Operating Temperature: 125°C; Packaging: Tape and Reel; Min Operating Temperature: -40°C; Case/Package: SOT-23-5; RoHS Compliant: Yes; Manufacturer Part Number: INA180A2IDBVR
footprint FP-DBV0005A-MFG
footprint FP-DBV0005A-IPC_C
footprint FP-DBV0005A-IPC_A
footprint FP-DBV0005A-IPC_B
pins: 1 OUT, 2 GND (power), 3 IN+ (in), 4 IN- (in), 5 VS (power)
text: +; -

## CMP-04918-000032-1
designator U?, comment TPS54302DDCR
IC REG BUCK ADJ 3A TSOT23-6; Manufacturer: Texas Instruments; Output Voltage: 0.6-26V; Output Type: AdjustableProgrammable; Max Junction Temp: +125°C; Number Of Outputs: 1; Min Supply Voltage: 4.5V; Switching Frequency: 400kHz; Standoff Height: 0mm; Max Duty Cycle: 100%; Nominal Supply Current: 45uA; Max Supply Voltage: 28V; Temperature Range High: +125°C; Switching Topology: Buck; Device Class L2: Power Management ICs; Output Current: 3A; Automotive: No; Temperature Range Low: -40°C; Temperature: -40°C to +125°C; Height: 1.1mm; Ipc Land Pattern Name: SOT95P280X110-6; RoHS: TRUE; Digikey Description: IC REG BUCK ADJ 3A TSOT23-6; Manufacturer Part Number: TPS54302DDCR; ComponentLink2Description: Datasheet; Device Class L3: Voltage Regulators - Switching; Octopart: https://octopart.com/tps54302ddcr-texas+instruments-74209025; Device Class L1: Integrated Circuits (ICs); Lead Free: Yes; ComponentLink2URL: http://www.ti.com/lit/ds/symlink/tps54302.pdf; Category: IC; Package: DDC0006A
footprint FP-DDC0006A-MFG
footprint FP-DDC0006A-IPC_C
footprint FP-DDC0006A-IPC_B
footprint FP-DDC0006A-IPC_A
pins: 1 GND (power), 2 SW (out), 3 VIN (power), 4 FB (in), 5 EN (in), 6 BOOT (out)

## CMP-05427-000029-1
designator C?, comment 1000uF
CAP ALUM 1000UF 20% 25V SMD; Manufacturer: Panasonic; Manufacturer Part Number: EEEFT1E102UP
footprint FP-FTG-MFG
pins: 1 C, 2 A
text: +

## CMP-05439-000002-1
designator L?, comment ETQP4M100KVK
FIXED IND 10UH 5.2A 45.76 MOHM; Manufacturer: Panasonic; Saturation Current: 9.1A; Automotive Grade: Grade 0; Shielding: true; Series Resistance: 45.76mΩ; Test Frequency: 100kHz; Rms Current: 4.4A; Core Material: Metal Composite; Tolerance: 20%; Standoff Height: 0.05mm; Device Class L2: Inductors; ComponentLink2URL: https://industrial.panasonic.com/cdbs/www-data/pdf/AGL0000/AGL0000C63.pdf; Value: 10uH; Lead Free: Yes; Octopart: https://octopart.com/etqp4m100kvk-panasonic-71577993; RoHS: TRUE; Digikey Description: FIXED IND 10UH 5.2A 45.76 MOHM; Device Class L1: Passive Components; Temperature Range Low: -55°C; Temperature Range High: +155°C; Height: 4mm; Automotive: Yes; Category: Ind; Manufacturer Part Number: ETQP4M100KVK; Inductance: 10uH; Device Class L3: Fixed Inductors; Package: PCC-M0840M-LP; Temperature: -55°C to +155°C; ComponentLink2Description: Datasheet
footprint FP-PCC-M0840M-LP-MFG
pins: 1, 2

## CMP-07173-000014-1
designator Q?, comment FDC658P
MOSFET P-CH 30V 4A SSOT-6; Manufacturer: ON Semiconductor; Manufacturer: onsemi; Pulse Drain Current: -20A; Drain To Source Breakdown Voltage: -30V; Continuous Drain Current: -4A; Turn On Delay Time: 12ns; Input Capacitace At Vds: 750pF @ -15V; Max Forward Diode Voltage: -1.2V; Depletion Mode: False; Number Of Channels: 1; Standoff Height: 0mm; Typ Forward Diode Voltage: -0.76V; Drain To Source Resistance: 0.041Ω; Power Dissipation: 0.8W; Rthja Max: 78°C/W; Turn Off Delay Time: 24ns; Threshold Vgs Max: -3V; Transconductance: 9S; Max Junction Temp: +150°C; Threshold Vgs Min: -1V; Gate To Source Voltage: 20V; Gate Charge At Vgs: 8nC @ -5V; Temperature Range Low: -55°C; Temperature: -55°C to +150°C; Octopart: https://octopart.com/fdc658p-on+semiconductor-84325768; Lead Free: Yes; Drain To Source Voltage: -30V; Device Class L1: Discrete Semiconductors; Manufacturer Part Number: FDC658P; Package: 419BL; ComponentLink2URL: https://www.onsemi.com/pub/Collateral/FDC658P-D.PDF; Height: 1.1mm; Mouser Description: MOSFET SSOT-6 P-CH -30V; Digikey Description: MOSFET P-CH 30V 4A SSOT-6; RoHS: TRUE; Temperature Range High: +150°C; Device Class L2: Transistors; Automotive: No; Device Class L3: MOSFETs; Footprint Url: https://www.onsemi.com/pub/Collateral/419BL.PDF; Number Of P Channels: 1; ComponentLink2Description: Datasheet; Category: Trans
footprint FP-419BL-MFG
footprint FP-419BL-IPC_C
footprint FP-419BL-IPC_B
footprint FP-419BL-IPC_A
pins: 1 D, 2 D, 3 G, 4 S, 5 D, 6 D

## CMP-07248-000069-1
designator L?, comment SRP1265A-100M
FIXED IND 10UH 10A 16.5 MOHM SMD; Manufacturer: Bourns; Shielding: Shielded; Self Resonant Frequency: 10MHz; Test Frequency: 100kHz; Q Factor: 20; Saturation Current: 15.5A; Tolerance: 20%; Core Material: Carbonyl Powder; DC Resistance (DCR): 16.5mR; REACH SVHC: No SVHC; Case/Package: Nonstandard; Length: 13.5mm; RMS Current (Irms): 10A; Termination: SMD/SMT; Max DC Current: 10A; Ratings: AEC-Q200; Max Operating Temperature: 150°C; Height: 6.2mm; Resistor Type: Wirewound; Min Operating Temperature: -40°C; Mount: Surface Mount; Packaging: Cut Tape; Depth: 12.5mm; Package Quantity: 500; RoHS Compliant: Yes; Current Rating: 10A; Inductance Tolerance: 20%; Width: 0.492inch; Height - Seated (Max): 0.252inch; Inductance: 10uH; Manufacturer Part Number: SRP1265A-100M
footprint FP-SRP1265A-100M-MFG
pins: 1, 2

## CMP-09083-000073-1
designator U?, comment AD5245BRJZ50-RL7
IC DGT POT 50KOHM 256TAP SOT23-8; Manufacturer: Analog Devices; Operating Supply Voltage: 5.5V; Supply Current: 3uA; Memory Type: Volatile; Number of Elements: 1; Resistance: 50kR; Number of Taps: 256; Temperature Coefficient: 35ppm/°C; Resistance Tolerance: 30%; Min Supply Voltage: 2.7V; -3db Bandwidth: 1.2MHz; Interface: I2C; Frequency: 400kHz; Max Supply Voltage: 5.5V; Number of Pins: 8; Package Quantity: 3000; Case/Package: SOT-23; REACH SVHC: No SVHC; Number of Circuits: 1; Taper: Linear; Contact Plating: Gold; Min Operating Temperature: -40°C; Operating Supply Current: 3uA; RoHS Compliant: Yes; Packaging: Tape and Reel; Number of Positions: 256; Lead Free: Contains Lead; Max Supply Current: 3uA; Max Operating Temperature: 125°C; Nominal Supply Current: 3uA; Radiation Hardening: No; Mount: Surface Mount; Tolerance: 30%; Series: -; Quiescent Current: 3uA; Manufacturer Part Number: AD5245BRJZ50-RL7
footprint FP-RJ-8-IPC_A
footprint FP-RJ-8-IPC_B
footprint FP-RJ-8-IPC_C
pins: 1 W, 2 VDD (power), 3 GND (power), 4 SCL (in), 5 SDA (io), 6 AD0 (in), 7 B, 8 A

## CMP-12105-000150-1
designator U?, comment STM32G431RBT6
IC MCU 32BIT 128KB FLASH 64LQFP; Manufacturer: STMicroelectronics; RoHS Compliant: Yes; Manufacturer Part Number: STM32G431RBT6
footprint FP-LQFP64-5W-MFG
footprint FP-LQFP64-5W-IPC_B
footprint FP-LQFP64-5W-IPC_A
footprint FP-LQFP64-5W-IPC_C
part A pins: 15 VSS (power), 16 VDD (power), 27 VSSA (power), 29 VDDA (power), 31 VSS (power), 32 VDD (power), 47 VSS (power), 48 VDD (power), 63 VSS (power), 64 VDD (power)
part B pins: 1 VBAT (power), 2 PC13 (io), 3 PC14-OSC32 IN (io), 4 PC15-OSC32 OUT (io), 5 PF0-OSC IN (io), 6 PF1-OSC OUT (io), 7 PG10/~{RST} (io), 8 PC0 (io), 9 PC1 (io), 10 PC2 (io), 11 PC3 (io), 12 PA0 (io), 13 PA1 (io), 14 PA2 (io), 17 PA3 (io), 18 PA4 (io), 19 PA5 (io), 20 PA6 (io), 21 PA7 (io), 22 PC4 (io), 23 PC5 (io), 24 PB0 (io), 25 PB1 (io), 26 PB2 (io), 28 VREF+ (power), 30 PB10 (io), 33 PB11 (io), 34 PB12 (io), 35 PB13 (io), 36 PB14 (io), 37 PB15 (io), 38 PC6 (io), 39 PC7 (io), 40 PC8 (io), 41 PC9 (io), 42 PA8 (io), 43 PA9 (io), 44 PA10 (io), 45 PA11 (io), 46 PA12 (io), 49 PA13 (io), 50 PA14 (io), 51 PA15 (io), 52 PC10 (io), 53 PC11 (io), 54 PC12 (io), 55 PD2 (io), 56 PB3 (io), 57 PB4 (io), 58 PB5 (io), 59 PB6 (io), 60 PB7 (io), 61 PB8-BOOT0 (io), 62 PB9 (io)

## CMP-12113-000003-3
designator U?, comment STUSB4500QTR
4.1V~22V USB 2.0 I2C Controllers Interface ICs STUSB45 Controller 24-VFQFN Exposed Pad; Manufacturer: STMicroelectronics; Number of Ports: 1; Min Supply Voltage: 3V; Max Junction Temperature (Tj): 145°C; Max Supply Voltage: 22V; Interface: I2C, USB; USB Standard: USB 2.0; Lifecycle Status: Production; Schedule B: 8542390000, 8542390000; Min Operating Temperature: -40°C; Ambient Temperature Range High: 105°C; Max Operating Temperature: 105°C; Height: 1mm; Manufacturer Part Number: STUSB4500QTR
footprint FP-QFN-24-EP_4x4-MFG
pins: 1 CC1DB (io), 2 CC1 (io), 3 NC, 4 CC2 (io), 5 CC2DB (io), 6 RESET (in), 7 SCL (in), 8 ~{SDA} (io), 9 ~{DISCH} (io), 10 GND (power), 11 ~{ATTACH} (oc), 12 ADDR0 (in), 13 ADDR1 (in), 14 ~{POWER OK3} (oc), 15 ~{GPIO} (oc), 16 ~{VBUS EN SNK} (oc), 17 ~{A B SIDE} (oc), 18 VBUS VS DISCH (power), 19 ~{ALERT} (oc), 20 ~{POWER OK2} (power), 21 VREG 1V2 (power), 22 VSYS (power), 23 VREG 2V7 (power), 24 VDD (power), 25 EP (power)

## CMP-12225-000030-1
designator D?, comment ESDA25P35-1U1M
TVS DIODE 22V 41V 1610; Manufacturer: STMicroelectronics; Clamping Voltage: 39V; Breakdown Voltage: 23.3V; Max Junction Temp: +150°C; Peak Pulse Current: 35A; Number Of Channels: 1; Peak Pulse Power: 1400W; Standoff Height: 0.02mm; Direction: Unidirectional; ComponentLink2URL: https://www.st.com/resource/en/datasheet/esda25p35-1u1m.pdf; Height: 0.6mm; Device Class L2: TVS Diodes; Temperature: -55°C to +150°C; Category: Diode; Temperature Range Low: -55°C; Digikey Description: TVS DIODE 22V 41V 1610; Reverse Standoff Voltage: 22V; Lead Free: Yes; Automotive: No; RoHS: TRUE; Manufacturer Part Number: ESDA25P35-1U1M; Temperature Range High: +150°C; Package: QFN_1610; Device Class L1: Circuit Protection; Device Class L3: unset; ComponentLink2Description: Datasheet; Octopart: https://octopart.com/esda25p35-1u1m-stmicroelectronics-75302699; Mouser Description: ESDA Series 1400 W 25 V Uni-Directional Surface Mount TVS Diode - QFN-1610
footprint FP-QFN_1610-MFG
pins: 1 C, 2 A

## CMP-12757-000010-1
designator U?, comment AP63200WU-7
IC REG BUCK ADJUSTABLE 2A TSOT26; Manufacturer: Diodes Inc.; Switching Frequency: 500kHz; Max Supply Voltage: 32V; Number Of Outputs: 1; Nominal Supply Current: 22uA; Min Supply Voltage: 3.8V; Output Type: AdjustableProgrammable; Max Junction Temp: +160°C; Standoff Height: 0.01mm; Octopart: https://octopart.com/ap63200wu-7-diodes+inc.-98099548; Height: 1mm; Temperature Range Low: -40°C; Output Current: 2A; ComponentLink2URL: https://www.diodes.com/assets/Datasheets/AP63200-AP63201-AP63203-AP63205.pdf; Switching Topology: Buck; Automotive: No; Device Class L1: Integrated Circuits (ICs); Ipc Land Pattern Name: SOT95P280X100-6; Package: TSOT26; Temperature Range High: +85°C; RoHS: TRUE; Ambient Temperature Range High: +85°C; Device Class L3: Voltage Regulators - Switching; Temperature: -40°C to +85°C; Device Class L2: Power Management ICs; Footprint Url: https://www.diodes.com/assets/Package-Files/TSOT26.pdf; Mouser Description: AP63200 Series 1.2 V 2 A Adjustable Synchronous Buck Converter - TSOT-26; Category: IC; ComponentLink2Description: Datasheet; Digikey Description: IC REG BUCK ADJUSTABLE 2A TSOT26; Lead Free: Yes; Ambient Temperature Range Low: -40°C; Manufacturer Part Number: AP63200WU-7
footprint FP-TSOT26-MFG
footprint FP-TSOT26-IPC_C
footprint FP-TSOT26-IPC_B
footprint FP-TSOT26-IPC_A
pins: 1 FB, 2 EN (in), 3 VIN (power), 4 GND (power), 5 SW, 6 BST